# EAGLE library part DS2482-100 (library myparts)
Single channel 1-Wire master with I2C interface
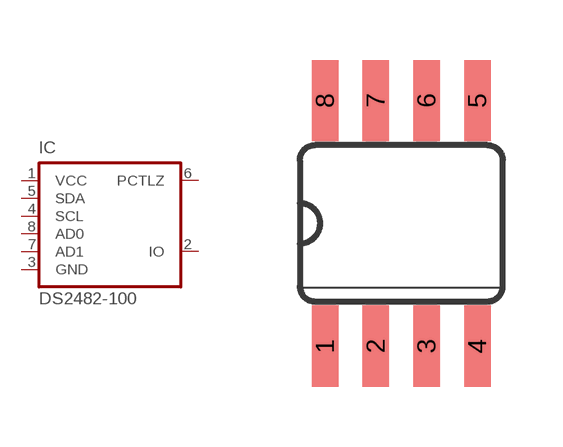
[diagram p0: symbol with the pads of SO08; footprint SO08]

Designator prefix IC

## DS2482-100  [SO08]
1  VCC  pwr
2  IO
3  GND  pwr
4  SCL  in
5  SDA  in
6  PCTLZ  out
7  AD1
8  AD0

## Footprint SO08 (pad centres in mm)
Small Outline Package SOIC 150 mil
smd 0.66 x 2.032: 1 -1.905,-3.073; 2 -0.635,-3.073; 3 0.635,-3.073; 4 1.905,-3.073; 5 1.905,3.073; 6 0.635,3.073; 7 -0.635,3.073; 8 -1.905,3.073